# EAGLE library part USB3080-30-01-A (library Connectors)
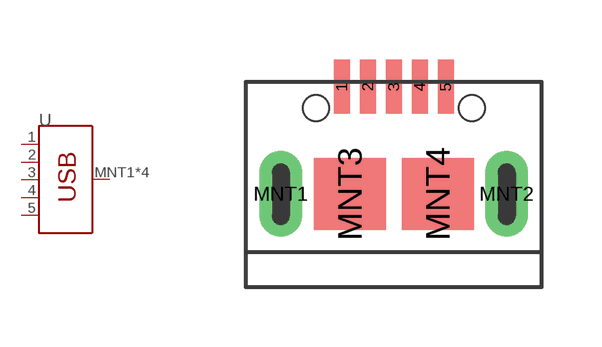
[diagram p7: symbol with the pads of USB3080-30-01-A; footprint USB3080-30-01-A]

Designator prefix -

## USB3080-30-01-A (MFG: Global Connector Technology; PN: USB3080-30-01-A)  [USB3080-30-01-A]
1  VBUS  pwr
2  D-
3  D+
4  ID
5  GND  pwr
MNT1  SHIELD
MNT2  SHIELD
MNT3  SHIELD
MNT4  SHIELD

## Footprint USB3080-30-01-A (pad centres in mm)
smd 0.4 x 1.35: 1 -1.3,0; 2 -0.65,0; 3 0,0; 4 0.65,0; 5 1.3,0
drill 0.45 pad 1.075 long: MNT1 -2.825,-2.68; MNT2 2.825,-2.68
smd 1.8 x 1.8: MNT3 -1.1,-2.68; MNT4 1.1,-2.68
hole 0.65 at -1.95,-0.53
hole 0.65 at 1.95,-0.53